# Altium schematic symbol library analogue.SchLib: 36 symbols
Pins are listed as number, name and electrical type; pins without a type are passive.

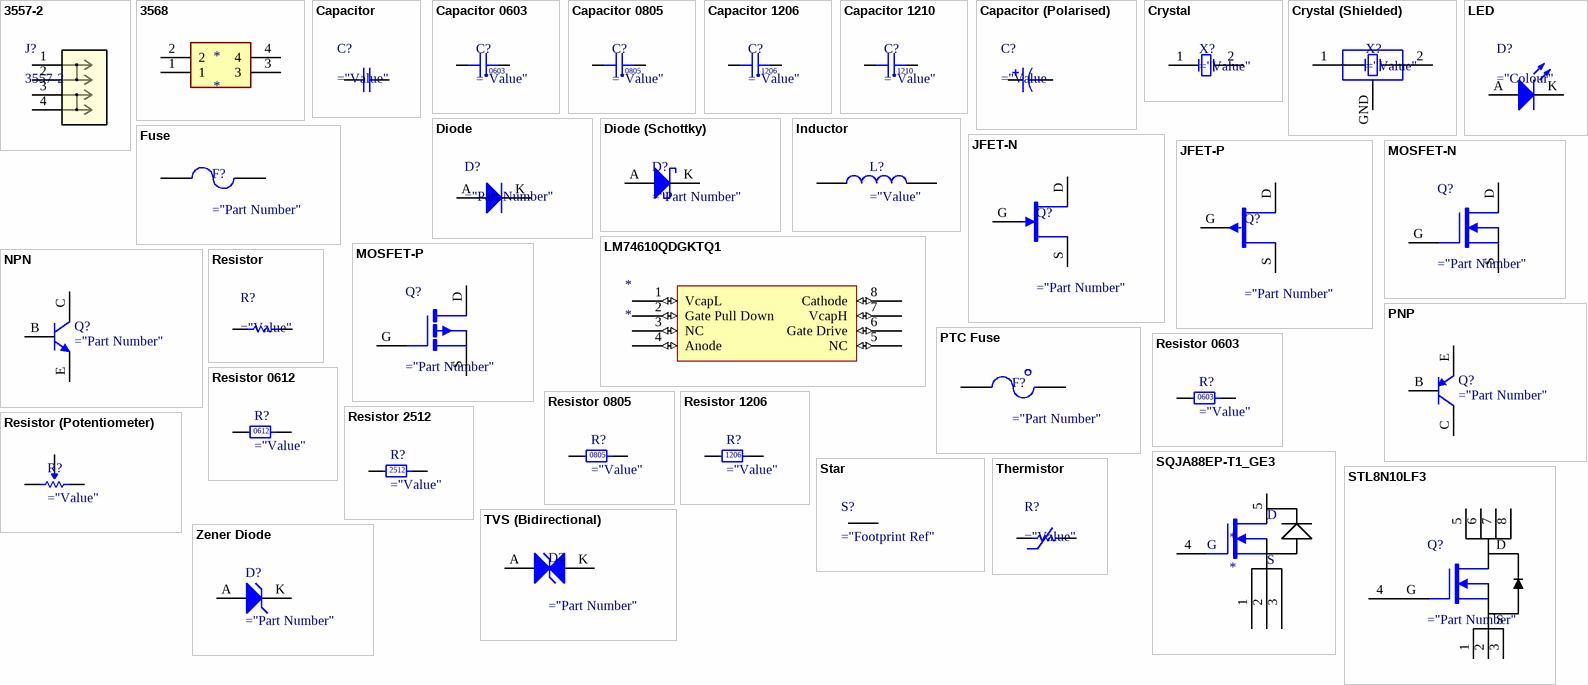
[diagram p0: symbols 3557-2 to Zener Diode]

## 3557-2
designator J?
No Description Available; Mfr_Name: Keystone Electronics; Copyright: Copyright (C) 2023 Ultra Librarian. All rights reserved.; Manufacturer_Part_Number: 3557-2; Digi-Key_Part_Number_1: 3557-2K-ND; Digi-Key_Part_Number_2: 36-3557-2-ND; Digi-Key_Part_Number_3: 36-3557-2-NDL; RefDes: RefDes; Type: DEV
footprint CONN_3557-2_KEY
pins: 1, 2, 3, 4

## 3568
designator *
pins: 1, 2, 3, 4

## Capacitor
designator C?
pins: 1, 2

## Capacitor 0603
designator C?
pins: 1, 2
text: 0603

## Capacitor 0805
designator C?
pins: 1, 2
text: 0805

## Capacitor 1206
designator C?
pins: 1, 2
text: 1206

## Capacitor 1210
designator C?
pins: 1, 2
text: 1210

## Capacitor (Polarised)
designator C?
pins: 1, 2

## Crystal
designator X?
pins: 1 OSC1, 2 OSC2

## Crystal (Shielded)
designator X?
pins: 1 OSC1, 2 OSC2, GND

## Diode
designator D?
pins: A, K

## Diode (Schottky)
designator D?
pins: A, K

## Fuse
designator F?
pins: 1, 2

## Inductor
designator L?
pins: 1, 2

## JFET-N
designator Q?
Published: 24-Mar-1999; LatestRevisionDate: 29-May-2009; LatestRevisionNote: IPC-7351 Footprint Added.; PackageVersion: Sep-2000; PackageReference: SOT-343; Publisher: Altium Limited; PackageDescription: 4-Pin SOT-343 Package 1.3 mm Pitch, 2.1 mm Lead Span
footprint SOT-343_N (SOT343, 4-Leads, Body 2x1.3 mm, Pitch 1.3mm, Lead Span 2.1mm, IPC Medium Density)
footprint SOT-343_L (SOT343, 4-Leads, Body 2x1.3 mm, Pitch 1.3mm, Lead Span 2.1mm, IPC High Density)
footprint SOT-343_M (SOT343, 4-Leads, Body 2x1.3 mm, Pitch 1.3mm, Lead Span 2.1mm, IPC Low Density)
simulation model NMOS (MOSFET-N)
pins: D, G, S

## JFET-P
designator Q?
Published: 24-Mar-1999; LatestRevisionDate: 29-May-2009; LatestRevisionNote: IPC-7351 Footprint Added.; PackageVersion: Sep-2000; PackageReference: SOT-343; Publisher: Altium Limited; PackageDescription: 4-Pin SOT-343 Package 1.3 mm Pitch, 2.1 mm Lead Span
footprint SOT-343_N (SOT343, 4-Leads, Body 2x1.3 mm, Pitch 1.3mm, Lead Span 2.1mm, IPC Medium Density)
footprint SOT-343_L (SOT343, 4-Leads, Body 2x1.3 mm, Pitch 1.3mm, Lead Span 2.1mm, IPC High Density)
footprint SOT-343_M (SOT343, 4-Leads, Body 2x1.3 mm, Pitch 1.3mm, Lead Span 2.1mm, IPC Low Density)
simulation model NMOS (MOSFET-N)
pins: D, G, S

## LED
designator D?
pins: A, K

## LM74610QDGKTQ1
designator *
pins: 1 VcapL (io), 2 Gate Pull Down (io), 3 NC (io), 4 Anode (io), 5 NC (io), 6 Gate Drive (io), 7 VcapH (io), 8 Cathode (io)

## MOSFET-N
designator Q?
Published: 24-Mar-1999; LatestRevisionDate: 29-May-2009; LatestRevisionNote: IPC-7351 Footprint Added.; PackageVersion: Sep-2000; PackageReference: SOT-343; Publisher: Altium Limited; PackageDescription: 4-Pin SOT-343 Package 1.3 mm Pitch, 2.1 mm Lead Span
footprint SOT-343_N (SOT343, 4-Leads, Body 2x1.3 mm, Pitch 1.3mm, Lead Span 2.1mm, IPC Medium Density)
footprint SOT-343_L (SOT343, 4-Leads, Body 2x1.3 mm, Pitch 1.3mm, Lead Span 2.1mm, IPC High Density)
footprint SOT-343_M (SOT343, 4-Leads, Body 2x1.3 mm, Pitch 1.3mm, Lead Span 2.1mm, IPC Low Density)
simulation model NMOS (MOSFET-N)
pins: D, G, S

## MOSFET-P
designator Q?
Published: 24-Mar-1999; LatestRevisionDate: 29-May-2009; LatestRevisionNote: IPC-7351 Footprint Added.; PackageVersion: Sep-2000; PackageReference: SOT-343; Publisher: Altium Limited; PackageDescription: 4-Pin SOT-343 Package 1.3 mm Pitch, 2.1 mm Lead Span
footprint SOT-343_N (SOT343, 4-Leads, Body 2x1.3 mm, Pitch 1.3mm, Lead Span 2.1mm, IPC Medium Density)
footprint SOT-343_L (SOT343, 4-Leads, Body 2x1.3 mm, Pitch 1.3mm, Lead Span 2.1mm, IPC High Density)
footprint SOT-343_M (SOT343, 4-Leads, Body 2x1.3 mm, Pitch 1.3mm, Lead Span 2.1mm, IPC Low Density)
simulation model NMOS (MOSFET-N)
pins: D, G, S

## NPN
designator Q?
pins: B, C, E

## PNP
designator Q?
pins: B, C, E

## PTC Fuse
designator F?
pins: 1, 2

## Resistor
designator R?
pins: 1, 2

## Resistor 0603
designator R?
pins: 1, 2
text: 0603

## Resistor 0612
designator R?
pins: 1, 2
text: 0612

## Resistor 0805
designator R?
pins: 1, 2
text: 0805

## Resistor 1206
designator R?
pins: 1, 2
text: 1206

## Resistor 2512
designator R?
pins: 1, 2
text: 2512

## Resistor (Potentiometer)
designator R?
pins: 1 CCW, 2 Wiper, 3 CW

## SQJA88EP-T1_GE3
designator *
pins: 1 S1, 2 S2, 3 S3, 4 G, 5 D
text: S

## Star
designator S?  (net tie, no BOM)
pins: 1, 2

## STL8N10LF3
designator Q?
Published: 24-Mar-1999; LatestRevisionDate: 29-May-2009; LatestRevisionNote: IPC-7351 Footprint Added.; PackageVersion: Sep-2000; PackageReference: SOT-343; Publisher: Altium Limited; PackageDescription: 4-Pin SOT-343 Package 1.3 mm Pitch, 2.1 mm Lead Span
footprint SOT-343_N (SOT343, 4-Leads, Body 2x1.3 mm, Pitch 1.3mm, Lead Span 2.1mm, IPC Medium Density)
footprint SOT-343_L (SOT343, 4-Leads, Body 2x1.3 mm, Pitch 1.3mm, Lead Span 2.1mm, IPC High Density)
footprint SOT-343_M (SOT343, 4-Leads, Body 2x1.3 mm, Pitch 1.3mm, Lead Span 2.1mm, IPC Low Density)
simulation model NMOS (MOSFET-N)
pins: 1 S, 2 S, 3 S, 4 G, 5 D, 6 D, 7 D, 8 D

## Thermistor
designator R?
pins: 1, 2

## TVS (Bidirectional)
designator D?
pins: A, K

## Zener Diode
designator D?
pins: A, K